# Altium schematic symbol library Front_PCB.SchLib: 12 symbols
Pins are listed as number, name and electrical type; pins without a type are passive.

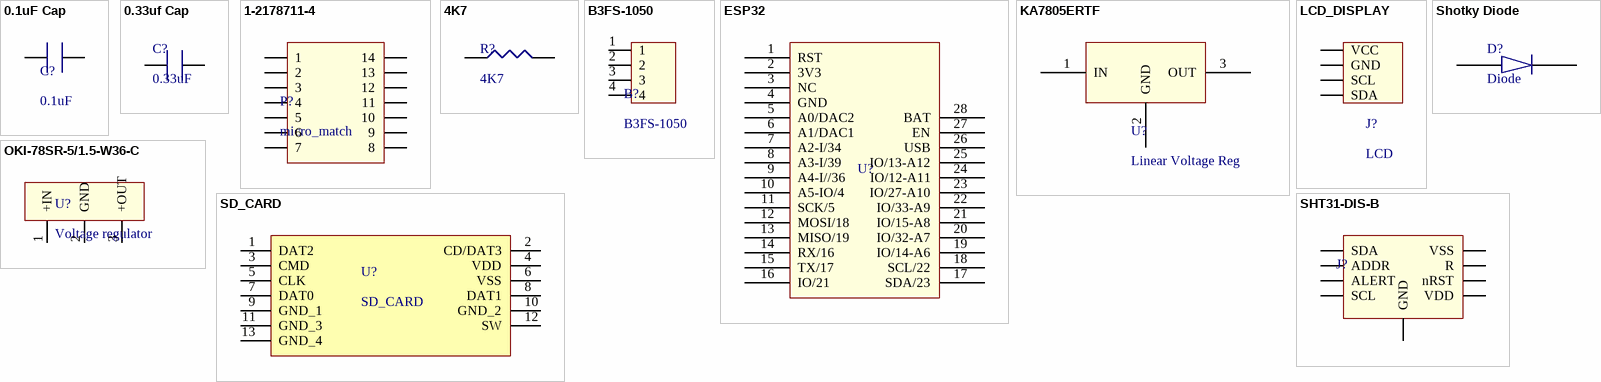
[diagram p0: symbols 0.1uF Cap to SHT31-DIS-B]

## 0.1uF Cap
designator C?, comment 0.1uF
KEMET         C0603C104K4RAC7081             SMD Multilayer Ceramic Capacitor, 0603 [1608 Metric], 0.1 F, 16 V,  10%, X7R, C Series; Capacitance: 0.1µF; Voltage Rating: 16V; SVHC: No SVHC (15-Jun-2015); Supplier 1: Farnell; Manufacturer: KEMET; Manufacturer Part Number: C0603C104K4RAC7081; Stock 1: 98220; Pricing 1: 10=0.0639, 100=0.0337, 500=0.0247, 2500=0.0209 (EUR); Ceramic Capacitor Case: 0603 [1608 Metric]; Capacitance Tolerance: ± 10%; Dielectric Characteristic: X7R; Product Range: C Series; Packaging: Cut Tape; Operating Temperature Min: -55°C; Operating Temperature Max: 125°C; Automotive Qualification Standard: -; MSL: MSL 1 - Unlimited; ComponentLink1URL: http://www.farnell.com/datasheets/2112158.pdf; ComponentLink1Description: http://www.farnell.com/datasheets/2112158.pdf; ComponentLink2URL: http://www.farnell.com/datasheets/2316283.pdf; ComponentLink2Description: http://www.farnell.com/datasheets/2316283.pdf; ComponentLink3URL: https://api.kemet.com/component-edge/download/datasheet/C0603C104K4RAC7081.pdf; ComponentLink3Description: https://api.kemet.com/component-edge/download/datasheet/C0603C104K4RAC7081.pdf; Supplier Part Number 1: 2522597
footprint CAP0603
pins: 1, 2

## 0.33uf Cap
designator C?, comment 0.33uF
CAP CER 0.33UF 50V X5R 0603; Manufacturer: TDK; Manufacturer Part Number: C1608X5R1H334K080AB; PCN Part Number: MLCC Part Number Change 30/Nov/2012; Product Training Modules: C Series General Applications SEAT, CCV, and TVCL Design Tools Guide to Replacing an Electrolytic Capacitor with an MLCC; Design Resources: 20 W Non-Isolated Buck LED Driver Using PL LNK460KG; Capacitance: 0.33µF; Tolerance: ±10%; Online Catalog: C Series, General Purpose; Other Names: 445-7462-6; Supplier 1: Farnell; Stock 1: 42723; Pricing 1: 10=0.291, 100=0.132, 500=0.091, 1000=0.0694 (EUR); RoHS Information: RoHS Certificate-MLCC; Standard Package: 1; Category: Capacitors; Family: Ceramic Capacitors; Series: C; Packaging: Digi-Reel®; Voltage - Rated: 50V; Temperature Coefficient: X5R; Mounting Type: Surface Mount, MLCC; Operating Temperature: -55°C ~ 85°C; Applications: General Purpose; Ratings: -; Package / Case: 0603 (1608 Metric); Size / Dimension: 0.063" L x 0.031" W (1.60mm x 0.80mm); Height - Seated (Max): -; Thickness (Max): 0.035" (0.90mm); Lead Spacing: -; Features: -; Lead Style: -; ComponentLink1URL: https://datasheet.ciiva.com/26919/getdatasheetpartid-755505-26919191.pdf; ComponentLink1Description: https://datasheet.ciiva.com/26919/getdatasheetpartid-755505-26919191.pdf; ComponentLink2URL: https://datasheet.ciiva.com/6251/tdkmlcccaprange-6251126.pdf; ComponentLink2Description: https://datasheet.ciiva.com/6251/tdkmlcccaprange-6251126.pdf; ComponentLink3URL: https://datasheet.ciiva.com/24218/mlcc-commercial-general-en-24218374.pdf; ComponentLink3Description: https://datasheet.ciiva.com/24218/mlcc-commercial-general-en-24218374.pdf; ComponentLink4URL: https://datasheet.ciiva.com/22694/1796654-22694123.pdf; ComponentLink4Description: https://datasheet.ciiva.com/22694/1796654-22694123.pdf; ComponentLink5URL: https://datasheet.ciiva.com/7975/1796654-7975053.pdf; ComponentLink5Description: https://datasheet.ciiva.com/7975/1796654-7975053.pdf; Supplier Part Number 1: 2211182
footprint CAP0603
pins: 1, 2

## 1-2178711-4
designator P?, comment micro_match
AMP FROM TE CONNECTIVITY         1-2178711-4             Wire-To-Board Connector, Micro-MaTch Value-Line Series, 14 Contacts, Receptacle, 1.27 mm; Manufacturer: TE Connectivity AMP; Number of Contacts: 14; Pitch: 1.27mm; Body Orientation: Straight; Supplier 1: Farnell; Manufacturer Part Number: 1-2178711-4; Stock 1: 904; Pricing 1: 1=1.24, 25=1.15, 70=1.06, 200=0.977, 450=0.89 (EUR); Number of Rows: 2; Type: Board to Board; Mounting Type: Surface Mount; Termination Method: Solder; Series: Micro-MaTch; Contact Material: Copper Alloy; Supplier Part Number 1: 2473362
footprint micro_Match
footprint micro_Match
pins: 1, 2, 3, 4, 5, 6, 7, 8, 9, 10, 11, 12, 13, 14

## 4K7
designator R?
Res Thin Film 0603 4.7K Ohm 0.1% 0.1W(1/10W) ±25ppm/C Molded SMD Automotive Punched T/R; Manufacturer: Panasonic; Manufacturer Part Number: ERA-3AEB472V; Resistance: 4.7 kΩ; Temp Coefficient: ±25 ppm/°C; Working Voltage-Nom: 75 V; Overload Voltage - Max: 150 V; No. of Terminations: 2; Supplier 1: Farnell; Stock 1: 4010; Pricing 1: 10=0.191, 100=0.109, 500=0.0637, 2500=0.0489 (EUR); Rated Power: 0.1 W; Tolerance (%): ±0.1 %; Technology: Thin Film; Operating Temp Range: -55 to +155 °C; Case Size: 0603 (1608 Metric); Height - Max: 0.55 mm; ComponentLink1URL: https://datasheet.ciiva.com/11808/0900766b80fe20f7-11808039.pdf; ComponentLink1Description: https://datasheet.ciiva.com/11808/0900766b80fe20f7-11808039.pdf; ComponentLink2URL: https://datasheet.ciiva.com/29183/451124-da-01-en-widerstand-0603-era-29183789.pdf; ComponentLink2Description: https://datasheet.ciiva.com/29183/451124-da-01-en-widerstand-0603-era-29183789.pdf; ComponentLink3URL: https://datasheet.ciiva.com/22743/485442-22743061.pdf; ComponentLink3Description: https://datasheet.ciiva.com/22743/485442-22743061.pdf; ComponentLink4URL: https://datasheet.ciiva.com/46422/485442-46422693.pdf; ComponentLink4Description: https://datasheet.ciiva.com/46422/485442-46422693.pdf; ComponentLink5URL: https://datasheet.ciiva.com/9116/aoa0000ce26-9116681.pdf; ComponentLink5Description: https://datasheet.ciiva.com/9116/aoa0000ce26-9116681.pdf; ComponentLink6URL: https://datasheet.ciiva.com/22781/485442-22781497.pdf; ComponentLink6Description: https://datasheet.ciiva.com/22781/485442-22781497.pdf; ComponentLink7URL: https://datasheet.ciiva.com/9117/aoa0000ce26-9117707.pdf; ComponentLink7Description: https://datasheet.ciiva.com/9117/aoa0000ce26-9117707.pdf; ComponentLink8URL: https://datasheet.ciiva.com/43455/485442-43455227.pdf; ComponentLink8Description: https://datasheet.ciiva.com/43455/485442-43455227.pdf; ComponentLink9URL: https://datasheet.ciiva.com/16772/70068849-16772572.pdf; ComponentLink9Description: https://datasheet.ciiva.com/16772/70068849-16772572.pdf; ComponentLink10URL: https://datasheet.ciiva.com/48425/era-eng-tds-48425470.pdf; ComponentLink10Description: https://datasheet.ciiva.com/48425/era-eng-tds-48425470.pdf; ComponentLink11URL: https://datasheet.ciiva.com/30078/54aoa0000ce26-30078815.pdf; ComponentLink11Description: https://datasheet.ciiva.com/30078/54aoa0000ce26-30078815.pdf; Supplier Part Number 1: 1577615
footprint RES0603
pins: 1, 2

## B3FS-1050
designator B?
OMRON ELECTRONIC COMPONENTS         B3F-1050             Tactile Switch, Non Illuminated, 24 V, 50 mA, 0.98 N, Solder, B3F Series; Description: SWITCH, SPNO, EXTENDED; Actuator Color: Black; Actuator Length: 4.7 mm; Body Orientation: Straight; Actuator Style: Projected Plunger; Ground Terminal: No; Electrical Life: 1000000 Cycles; Dielectric Strength: 250 VAC; Contact Rating @ Voltage: 0.05@24VDC A; Maximum DC Voltage Rating: 24 V; Pole Throw Configuration: SPST; Illumination Type: N/R; Product Weight: 0.2 g; Maximum Contact Resistance: 100 mOhm; Operating Force: 0.98 N; Switch Configuration: N.O.; Supplier 1: Farnell; Manufacturer: Omron; Manufacturer Part Number: B3FS-1050; Stock 1: 1716; Pricing 1: 5=1.6, 100=1.52, 250=1.44, 1000=1.12, 2500=1.04 (GBP); Contact Material: N/A; Base Material: N/A; Family: B3FS; Contact Plating: Silver; Housing Material: N/A; Dimension: 6.3 x 8 x 7.3 mm; Part No: B3FS-1050; RoHS: Yes; Maximum AC Voltage Rating: N/A; Seal Description: N/A; Mechanical Life: N/A; Packaging: Bag; Mounting: Surface Mount,Gull Wing; Minimum Insulation Resistance: 100 MOhm; Operating Temperature: -25 to 70 C; Type: N/A; Seal Location: N/A; ComponentLink1URL: http://www.onlinecomponents.com/productFiles/mf-OM/en-b3fs.pdf; ComponentLink1Description: http://www.onlinecomponents.com/productFiles/mf-OM/en-b3fs.pdf; ComponentLink2URL: http://www.farnell.com/datasheets/1518732.pdf; ComponentLink2Description: http://www.farnell.com/datasheets/1518732.pdf; ComponentLink3URL: http://omronfs.omron.com/en_US/ecb/products/pdf/en-b3fs.pdf; ComponentLink3Description: http://omronfs.omron.com/en_US/ecb/products/pdf/en-b3fs.pdf; Supplier Part Number 1: 3121185
footprint B3F-1050
pins: 1, 2, 3, 4

## ESP32
designator U?, comment Adafruit Huzzah32  (value not drawn)
footprint ESP32
pins: 1 RST, 2 3V3, 3 NC, 4 GND, 5 A0/DAC2, 6 A1/DAC1, 7 A2-I/34, 8 A3-I/39, 9 A4-I//36, 10 A5-IO/4, 11 SCK/5, 12 MOSI/18, 13 MISO/19, 14 RX/16, 15 TX/17, 16 IO/21, 17 SDA/23, 18 SCL/22, 19 IO/14-A6, 20 IO/32-A7, 21 IO/15-A8, 22 IO/33-A9, 23 IO/27-A10, 24 IO/12-A11, 25 IO/13-A12, 26 USB, 27 EN, 28 BAT

## KA7805ERTF
designator U?, comment Linear Voltage Reg
FAIRCHILD SEMICONDUCTOR         KA7805ERTF             Linear Voltage Regulator, 7805, Fixed, 10V To 35V In, 5V And 1A Out, TO-252-3; Manufacturer: ON Semiconductor / Fairchild; Minimum Input Voltage: 7 V; Maximum Input Voltage: 25 V; Number of Outputs: 1; Polarity: Positive; Typical Dropout Voltage @ Current: 2 V @ 1 A; Quiescent Current: 8mA; Load Regulation: 100 mV; Supplier 1: Farnell; Manufacturer Part Number: KA7805ERTF; Stock 1: 0; Output Voltage: 5 V; Maximum Output Current: 1A; Package Type: DPAK; Output Type: Fixed; Mounting Type: Surface Mount; Regulator Function: Linear; Pin Count: 3; Minimum Operating Temperature: 0 °C; Maximum Operating Temperature: +125 °C; Series: KA78xx; Height: 2.38mm; Width: 6.22mm; Dropout Voltage Measurement Current: 1 A; Dimensions: 6.73 x 6.22 x 2.38mm; Length: 6.73mm; Line Regulation: 100 mV; ComponentLink1URL: https://datasheet.ciiva.com/26180/ka7824e-26180282.pdf; ComponentLink1Description: https://datasheet.ciiva.com/26180/ka7824e-26180282.pdf; ComponentLink2URL: https://datasheet.ciiva.com/1511/1747520-1511515.pdf; ComponentLink2Description: https://datasheet.ciiva.com/1511/1747520-1511515.pdf; ComponentLink3URL: https://datasheet.ciiva.com/3224/ka7824e-3224876.pdf; ComponentLink3Description: https://datasheet.ciiva.com/3224/ka7824e-3224876.pdf; ComponentLink4URL: https://datasheet.ciiva.com/7658/1747520-7658876.pdf; ComponentLink4Description: https://datasheet.ciiva.com/7658/1747520-7658876.pdf; ComponentLink5URL: https://datasheet.ciiva.com/6592/ka7805e-6592445.pdf; ComponentLink5Description: https://datasheet.ciiva.com/6592/ka7805e-6592445.pdf; ComponentLink6URL: https://datasheet.ciiva.com/6592/ka7805e-6592446.pdf; ComponentLink6Description: https://datasheet.ciiva.com/6592/ka7805e-6592446.pdf; ComponentLink7URL: https://datasheet.ciiva.com/6592/ka7805e-6592463.pdf; ComponentLink7Description: https://datasheet.ciiva.com/6592/ka7805e-6592463.pdf; ComponentLink8URL: https://datasheet.ciiva.com/48694/001252964-da-01-en-ic-reg-ldo-5v-1a-ka7805ertf-to-252-3-fsc-48694758.pdf; ComponentLink8Description: https://datasheet.ciiva.com/48694/001252964-da-01-en-ic-reg-ldo-5v-1a-ka7805ertf-to-252-3-fsc-48694758.pdf; Supplier Part Number 1: 2102585
footprint D-PAK
pins: 1 IN, 2 GND, 3 OUT

## LCD_DISPLAY
designator J?, comment LCD
footprint LCD_DISPLAY
pins: 1 VCC, 2 GND, 3 SCL, 4 SDA

## OKI-78SR-5/1.5-W36-C
designator U?, comment Voltage regulator
Non-Isolated DC/DC Converters 7.5W 24Vin 5Vout1 1.5A SIP Non-Iso; Manufacturer: Murata; Manufacturer Part Number: OKI-78SR-5/1.5-W36-C; Power (Watts) - Manufacture Series: 8W; Number of Outputs: 1; Voltage - Input (Min): 7V; Voltage - Input (Max): 36V; Voltage - Output 1: 5V; Efficiency: 90.5%; Supplier 1: Farnell; Stock 1: 0; Category: Power Supplies - Board Mount; Family: DC DC Converters; Series: Okami™ OKI-78SR; Packaging: Tube; Type: Linear Regulator Replacement; Voltage - Output 2: -; Voltage - Output 3: -; Current - Output (Max): 1.5A; Voltage - Isolation: -; Applications: ITE (Commercial); Features: SCP; Mounting Type: Through Hole; Package / Case: 3-SIP Module; Size / Dimension: 0.41" L x 0.30" W x 0.65" H (10.4mm x 7.6mm x 16.5mm); Operating Temperature: -40°C ~ 85°C; Power (Watts) - Max: 8W; ComponentLink1URL: https://datasheet.ciiva.com/8006/1790439-8006672.pdf; ComponentLink1Description: https://datasheet.ciiva.com/8006/1790439-8006672.pdf; ComponentLink2URL: https://datasheet.ciiva.com/2374/oki-78sr-2374163.pdf; ComponentLink2Description: https://datasheet.ciiva.com/2374/oki-78sr-2374163.pdf; ComponentLink3URL: https://datasheet.ciiva.com/8220/oki-78sr-8220327.pdf; ComponentLink3Description: https://datasheet.ciiva.com/8220/oki-78sr-8220327.pdf; ComponentLink4URL: https://datasheet.ciiva.com/4646/oki-78sr-56393-4646361.pdf; ComponentLink4Description: https://datasheet.ciiva.com/4646/oki-78sr-56393-4646361.pdf; ComponentLink5URL: https://datasheet.ciiva.com/6917/1790439-6917306.pdf; ComponentLink5Description: https://datasheet.ciiva.com/6917/1790439-6917306.pdf; ComponentLink6URL: https://datasheet.ciiva.com/17327/oki-78sr-17327359.pdf; ComponentLink6Description: https://datasheet.ciiva.com/17327/oki-78sr-17327359.pdf; Supplier Part Number 1: 2102101
footprint DC-DC
pins: 1 +IN, 2 GND, 3 +OUT

## SD_CARD
designator U?
Manufacturer: Hirose; Manufacturer Part Number: DM3CS-SF; Product Training Modules: DM3 Series microSD Card Sockets; Featured Product: DM3CS Connector; HTML Datasheet: DM3 Series microSD.html; Card Type: Secure Digital - microSD™; Number of Positions: 10 (8 + 2); Connector Type: Connector and Ejector; Insertion, Removal Method: Hinged Lid; Online Catalog: DM3 Series; Other Names: HR1972DKR; Supplier 1: Farnell; Stock 1: 0; Standard Package: 1; Category: Connectors, Interconnects; Family: Memory Connectors - PC Card Sockets; Series: DM3; Packaging: Digi-Reel®; Ejector Side: -; Mounting Type: Surface Mount, Right Angle; Features: Switch; Height Above Board: 0.072" (1.83mm); Mounting Feature: Normal, Standard - Top; Contact Finish: Gold; Contact Finish Thickness: -; ComponentLink1URL: https://datasheet.ciiva.com/683/e60900232-683360.pdf; ComponentLink1Description: https://datasheet.ciiva.com/683/e60900232-683360.pdf; ComponentLink2URL: https://datasheet.ciiva.com/683/e60900232-683361.pdf; ComponentLink2Description: https://datasheet.ciiva.com/683/e60900232-683361.pdf; ComponentLink3URL: https://datasheet.ciiva.com/7651/1465328-7651895.pdf; ComponentLink3Description: https://datasheet.ciiva.com/7651/1465328-7651895.pdf; ComponentLink4URL: https://datasheet.ciiva.com/3122/e60900232-3122536.pdf; ComponentLink4Description: https://datasheet.ciiva.com/3122/e60900232-3122536.pdf; ComponentLink5URL: https://datasheet.ciiva.com/4581/e60900232-38395-4581034.pdf; ComponentLink5Description: https://datasheet.ciiva.com/4581/e60900232-38395-4581034.pdf; ComponentLink6URL: https://datasheet.ciiva.com/16434/e60900232-16434058.pdf; ComponentLink6Description: https://datasheet.ciiva.com/16434/e60900232-16434058.pdf; ComponentLink7URL: https://datasheet.ciiva.com/16655/e60900232-16655644.pdf; ComponentLink7Description: https://datasheet.ciiva.com/16655/e60900232-16655644.pdf; ComponentLink8URL: https://datasheet.ciiva.com/683/e60900232-683359.pdf; ComponentLink8Description: https://datasheet.ciiva.com/683/e60900232-683359.pdf; Supplier Part Number 1: 1764376
footprint SD_CARD
pins: 1 DAT2, 2 CD/DAT3, 3 CMD, 4 VDD, 5 CLK, 6 VSS, 7 DAT0, 8 DAT1, 9 GND_1, 10 GND_2, 11 GND_3, 12 SW, 13 GND_4

## Shotky Diode
designator D?, comment Diode
NXP         PMEG2010ER             Schottky Rectifier, Single, 20 V, 1 A, SOD-123W, 2 Pins, 340 mV; Manufacturer: NXP Semiconductors; Maximum Continuous Forward Current: 1A; Number of Elements per Chip: 1; Peak Reverse Repetitive Voltage: 20V; Peak Forward Voltage: 340mV; Peak Reverse Current: 1mA; Supplier 1: Farnell; Manufacturer Part Number: PMEG2010ER; Stock 1: 2521; Pricing 1: 5=0.271, 25=0.187, 100=0.139, 250=0.135, 500=0.0809, 1000=0.0714, 5000=0.07 (EUR); Diode Configuration: Single; Mounting Type: Surface Mount; Package Type: SOD-123; Diode Type: Schottky; Pin Count: 2; Length: 2.8mm; Width: 1.9mm; Height: 1.1mm; Dimensions: 2.8 x 1.9 x 1.1mm; Maximum Operating Temperature: +150 °C; Minimum Operating Temperature: -55 °C; ComponentLink1URL: https://datasheet.ciiva.com/5727/1760771-5727088.pdf; ComponentLink1Description: https://datasheet.ciiva.com/5727/1760771-5727088.pdf; ComponentLink2URL: https://datasheet.ciiva.com/22696/1383341-22696483.pdf; ComponentLink2Description: https://datasheet.ciiva.com/22696/1383341-22696483.pdf; ComponentLink3URL: https://datasheet.ciiva.com/7965/1383341-7965062.pdf; ComponentLink3Description: https://datasheet.ciiva.com/7965/1383341-7965062.pdf; Supplier Part Number 1: 1907681
footprint Shotky-Diode
pins: 1, 2

## SHT31-DIS-B
designator J?, comment Temp and Humidity  (value not drawn)
SENSIRION         SHT31-DIS-B             Humidity Sensor, 2 %, 3.3 V, 0% to 100% Relative Humidity, TDFN, 8 Pins, 8 s; Sensor Function: Temperature & Humidity; Output Type: Digital; Interface Type: I2C; Accuracy: ±0.3 (Temperature) °C, ±2 (Humidity) %RH; Minimum Operating Supply Voltage: 2.4 V; Maximum Operating Supply Voltage: 5.5 V; Resolution: 0.05 (Humidity) %RH, 0.05 (Temperature) °C; Supplier 1: Farnell; Manufacturer: Sensirion; Manufacturer Part Number: SHT31-DIS-B; Stock 1: 0; Mounting Type: Surface Mount; Pin Count: 8; Minimum Operating Temperature: -40 °C; Maximum Operating Temperature: +125 °C; Package Type: DFN; Length: 2.6mm; Height: 1mm; Width: 2.6mm; Dimensions: 2.6 x 2.6 x 1mm; ComponentLink1URL: http://www.farnell.com/datasheets/1905459.pdf; ComponentLink1Description: http://www.farnell.com/datasheets/1905459.pdf; ComponentLink2URL: http://uk.rs-online.com/webdocs/13dd/0900766b813ddc9f.pdf; ComponentLink2Description: http://uk.rs-online.com/webdocs/13dd/0900766b813ddc9f.pdf; ComponentLink3URL: https://www.sensirion.com/fileadmin/user_upload/customers/sensirion/Dokumente/2_Humidity_Sensors/Sensirion_Humidity_Sensors_Testing_Guide_V1.2.pdf; ComponentLink3Description: https://www.sensirion.com/fileadmin/user_upload/customers/sensirion/Dokumente/2_Humidity_Sensors/Sensirion_Humidity_Sensors_Testing_Guide_V1.2.pdf; ComponentLink4URL: http://www.farnell.com/datasheets/2611771.pdf; ComponentLink4Description: http://www.farnell.com/datasheets/2611771.pdf; ComponentLink5URL: https://www.sensirion.com/file/datasheet_filter-membrane; ComponentLink5Description: https://www.sensirion.com/file/datasheet_filter-membrane; Supplier Part Number 1: 2474218
footprint SON50P250X100_HS-9N (SON, 8-Leads, Body 2.50x2.50mm, Pitch 0.50mm, Thermal Pad 1.65x0.69mm, IPC Medium Density)
pins: 1 SDA, 2 ADDR, 3 ALERT, 4 SCL, 5 VDD, 6 nRST, 7 R, 8 VSS, 9 GND